# Altium footprint library BSE_PCB_lib.PcbLib: 3 footprints
Each footprint in its own frame and in the unit in brackets; x right, y up, seen from the top. Pads: shape width x height; smd on the part's side, far side on the other; paste and mask are expansions set on the pad; w line width, h text height; cw(c..) or ccw(c..) is an arc to the next point about the centre after c.
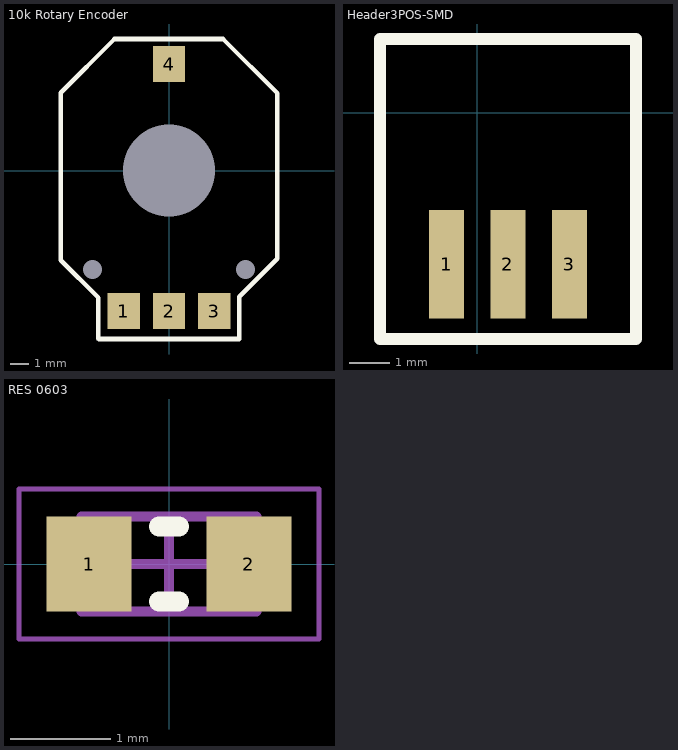
[diagram p0: the footprints below, top view; thin cyan lines are the x and y axes]

## 10k Rotary Encoder [mm]
pads (7):
  round 0 hole 1.05 unplated: 0(-4.25,-5.5) 0(4.25,-5.5)
  round 0 hole 5.1 unplated: 0(0,0)
  rect 1.8x2 smd: 1(-2.5,-7.8) 2(0,-7.8) 3(2.5,-7.8) 4(0,5.9)
Top Overlay:
  lines w0.254: 3,7.3 -3.025,7.3 -3.05,7.275 -6,4.325 -6,-4.975 -3.925,-7.05 -3.925,-9.325 -3.9,-9.35 3.9,-9.35 3.9,-7 6,-4.9 6,4.3 3,7.3 ; 3,7.3 3,7.3
3D body "SV01A_smd.stp": height 2.16, standoff -0.99, extent -5.475,-8.2 5.525,6.7

## Header3POS-SMD [mm]
pads (3):
  rect 0.85x2.65 smd: 1(-0.75,-3.7) 2(0.75,-3.7) 3(2.25,-3.7)
Top Overlay:
  lines w0.3: -2.375,-5.525 -2.375,1.8 3.875,1.8 3.875,-5.525 -2.375,-5.525
3D body "874380343.stp": height 4.53, standoff 0.01, extent -2.15,-4.6 3.65,3.15

## RES 0603 [mm] "Chip Resistor, 2-Leads, Body 1.60x0.85mm, IPC Medium Density"
height 0.55
pads (2):
  rect 0.85x0.95 smd: 1(-0.8,0) 2(0.8,0)
Top Overlay:
  lines w0.2: -0.1,-0.375 0.1,-0.375 ; -0.1,0.375 0.1,0.375
Mechanical 13:
  lines w0.1: -0.875,-0.475 0.875,-0.475 0.875,0.475 -0.875,0.475 -0.875,-0.475
Mechanical 15:
  lines w0.05: -1.5,-0.75 1.5,-0.75 1.5,0.75 -1.5,0.75 -1.5,-0.75
  lines w0.1: -0.475,0 0.475,0 ; 0,-0.475 0,0.475
3D body "RESC1608X06N.step": height 0.55, standoff 0, extent -0.861,-0.508 0.889,0.442